# EAGLE library part 34C86 (library Radicon)
DS34C87T CMOS Quad TRISTATE Differential Line Driver
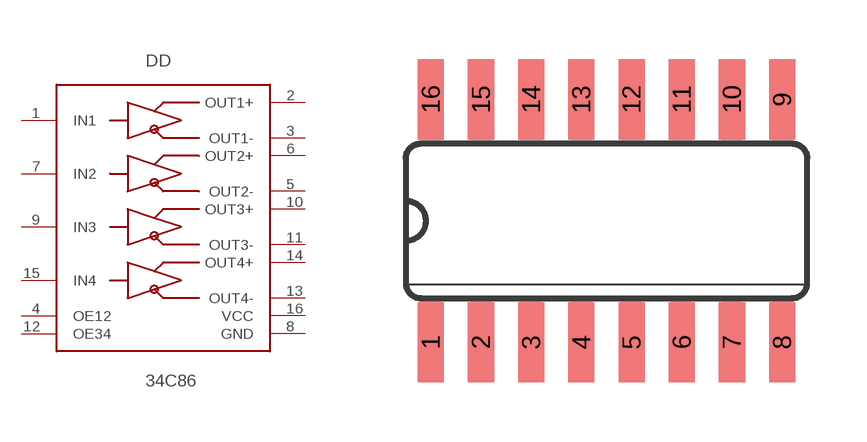
[diagram p40: symbol with the pads of SO16; footprint SO16]

Designator prefix DD

## 34C86  [SO16]
1  IN1
2  OUT1+
3  OUT1-
4  OE12
5  OUT2-
6  OUT2+
7  IN2
8  GND
9  IN3
10  OUT3+
11  OUT3-
12  OE34
13  OUT4-
14  OUT4+
15  IN4
16  VCC

## Footprint SO16 (pad centres in mm)
Small Outline package 150 mil
smd 0.66 x 2.032: 1 -4.445,-3.073; 2 -3.175,-3.073; 3 -1.905,-3.073; 4 -0.635,-3.073; 5 0.635,-3.073; 6 1.905,-3.073; 7 3.175,-3.073; 8 4.445,-3.073; 9 4.445,3.073; 10 3.175,3.073; 11 1.905,3.073; 12 0.635,3.073; 13 -0.635,3.073; 14 -1.905,3.073; 15 -3.175,3.073; 16 -4.445,3.073